# Altium schematic symbol library Capacitors.SchLib: 1 symbol
Pins are listed as number, name and electrical type; pins without a type are passive.

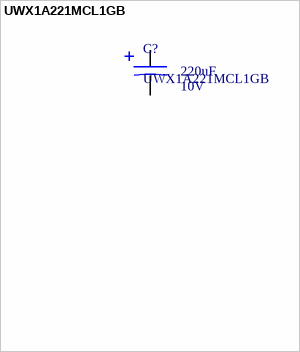
[diagram p0: symbol UWX1A221MCL1GB]

## UWX1A221MCL1GB
designator C?  value 220uF  Voltage: 10V
220uF 10V Electrolytic Capacitor, SMD; PNP-Nzl: 6; PNP-dx: 0; PNP-X: 8.3; PNP-Y: 1; PNP-Pt: 2; PNP-Thk: 5.4; PNP-Lv: 26; PNP-TS: 70; PNP-Type: CAP; PNP-FeedType: Tape; PNP-TapeWidth: 16; PNP-TapeIndex: 3; PNP-dy: 0; PNP-A: 0; PNP-W: 0; PNP-Level: 1; PNP-Voff: 0; PNP-PlacePriority: 2; PNP-da: 0; Supplier 1: Digi-Key; Supplier Part Number 1: 493-2098-1-ND
footprint Nichicon UWX - 8mm x 5.5mm (Electrolytic capacitor)
pins: 1, 2